# EAGLE library part PCA9685 (library 445-eagle-lib)
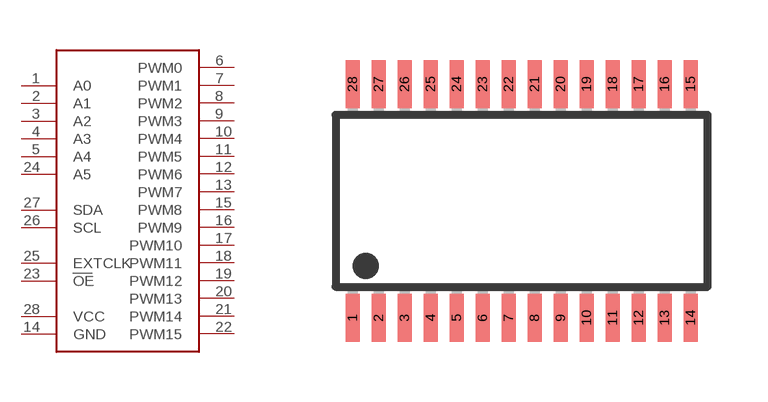
[diagram p5: symbol with the pads of TSSOP28; footprint TSSOP28]

Designator prefix -

## PCA9685  [TSSOP28]
1  A0
2  A1
3  A2
4  A3
5  A4
6  PWM0
7  PWM1
8  PWM2
9  PWM3
10  PWM4
11  PWM5
12  PWM6
13  PWM7
14  GND
15  PWM8
16  PWM9
17  PWM10
18  PWM11
19  PWM12
20  PWM13
21  PWM14
22  PWM15
23  OE
24  A5
25  EXTCLK
26  SCL
27  SDA
28  VCC

## Footprint TSSOP28 (pad centres in mm)
PW (R-PDSO-G8) Source: http://focus.ti.com/lit/ds/symlink/ads1271.pdf
smd 0.35 x 1.2: 1 -4.225,-2.925; 2 -3.575,-2.925; 3 -2.925,-2.925; 4 -2.275,-2.925; 5 -1.625,-2.925; 6 -0.975,-2.925; 7 -0.325,-2.925; 8 0.325,-2.925; 9 0.975,-2.925; 10 1.625,-2.925; 11 2.275,-2.925; 12 2.925,-2.925; 13 3.575,-2.925; 14 4.225,-2.925; 15 4.225,2.925; 16 3.575,2.925; 17 2.925,2.925; 18 2.275,2.925; 19 1.625,2.925; 20 0.975,2.925; 21 0.325,2.925; 22 -0.325,2.925; 23 -0.975,2.925; 24 -1.625,2.925; 25 -2.275,2.925; 26 -2.925,2.925; 27 -3.575,2.925; 28 -4.225,2.925